# EAGLE library part K4M513233C (library memory-samsung)
SDRAM 4M x 32Bit x 4 Banks Mobile SDRAM
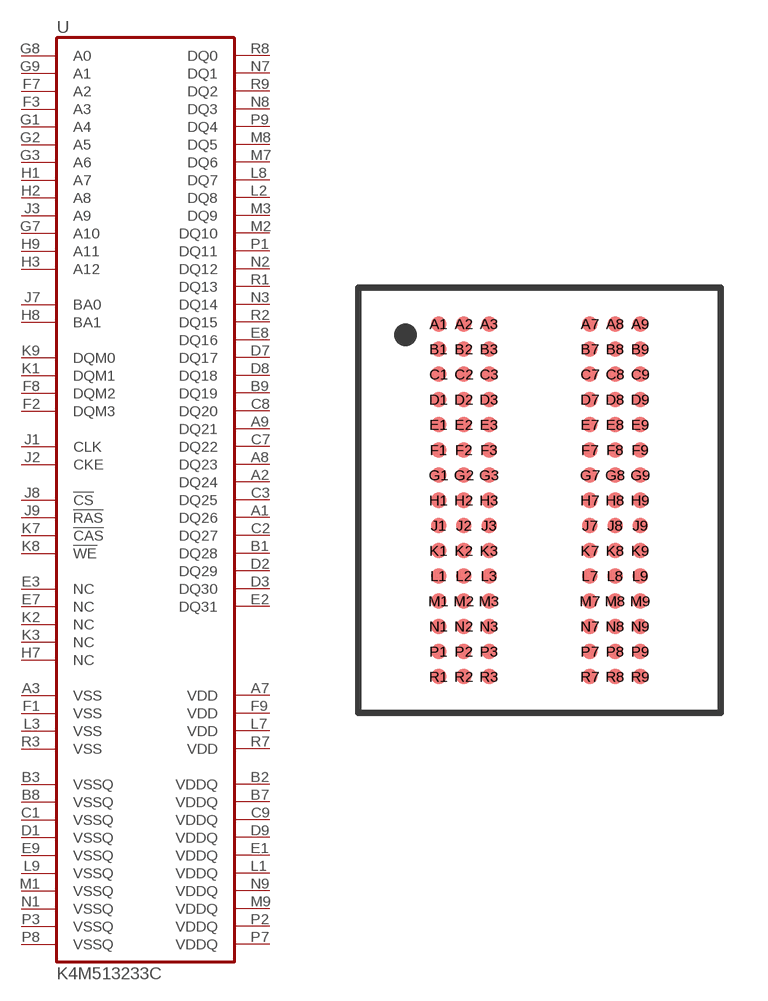
[diagram p3: symbol with the pads of FBGA90-6X15; footprint FBGA90-6X15]

Designator prefix U

## K4M513233C  [FBGA90-6X15]
A1  DQ26
A2  DQ24
A3  VSS  pwr
A7  VDD  pwr
A8  DQ23
A9  DQ21
B1  DQ28
B2  VDDQ  pwr
B3  VSSQ  pwr
B7  VDDQ  pwr
B8  VSSQ  pwr
B9  DQ19
C1  VSSQ  pwr
C2  DQ27
C3  DQ25
C7  DQ22
C8  DQ20
C9  VDDQ  pwr
D1  VSSQ  pwr
D2  DQ29
D3  DQ30
D7  DQ17
D8  DQ18
D9  VDDQ  pwr
E1  VDDQ  pwr
E2  DQ31
E3  NC  nc
E7  NC  nc
E8  DQ16
E9  VSSQ  pwr
F1  VSS  pwr
F2  DQM3  in
F3  A3  in
F7  A2  in
F8  DQM2  in
F9  VDD  pwr
G1  A4  in
G2  A5  in
G3  A6  in
G7  A10  in
G8  A0  in
G9  A1  in
H1  A7  in
H2  A8  in
H3  A12  in
H7  NC  nc
H8  BA1  in
H9  A11  in
J1  CLK  in
J2  CKE  in
J3  A9  in
J7  BA0  in
J8  !CS!  in
J9  !RAS!  in
K1  DQM1  in
K2  NC  nc
K3  NC  nc
K7  !CAS!  in
K8  !WE!  in
K9  DQM0  in
L1  VDDQ  pwr
L2  DQ8
L3  VSS  pwr
L7  VDD  pwr
L8  DQ7
L9  VSSQ  pwr
M1  VSSQ  pwr
M2  DQ10
M3  DQ9
M7  DQ6
M8  DQ5
M9  VDDQ  pwr
N1  VSSQ  pwr
N2  DQ12
N3  DQ14
N7  DQ1
N8  DQ3
N9  VDDQ  pwr
P1  DQ11
P2  VDDQ  pwr
P3  VSSQ  pwr
P7  VDDQ  pwr
P8  VSSQ  pwr
P9  DQ4
R1  DQ13
R2  DQ15
R3  VSS  pwr
R7  VDD  pwr
R8  DQ0
R9  DQ2

## Footprint FBGA90-6X15 (pad centres in mm)
FBGA90 (6X15) 0.80 mm pitch
smd 0.5 x 0.5: A1 -3.2,5.6; A2 -2.4,5.6; A3 -1.6,5.6; A7 1.6,5.6; A8 2.4,5.6; A9 3.2,5.6; B1 -3.2,4.8; B2 -2.4,4.8; B3 -1.6,4.8; B7 1.6,4.8; B8 2.4,4.8; B9 3.2,4.8; C1 -3.2,4; C2 -2.4,4; C3 -1.6,4; C7 1.6,4; C8 2.4,4; C9 3.2,4; D1 -3.2,3.2; D2 -2.4,3.2; D3 -1.6,3.2; D7 1.6,3.2; D8 2.4,3.2; D9 3.2,3.2; E1 -3.2,2.4; E2 -2.4,2.4; E3 -1.6,2.4; E7 1.6,2.4; E8 2.4,2.4; E9 3.2,2.4; F1 -3.2,1.6; F2 -2.4,1.6; F3 -1.6,1.6; F7 1.6,1.6; F8 2.4,1.6; F9 3.2,1.6; G1 -3.2,0.8; G2 -2.4,0.8; G3 -1.6,0.8; G7 1.6,0.8; G8 2.4,0.8; G9 3.2,0.8; H1 -3.2,0; H2 -2.4,0; H3 -1.6,0; H7 1.6,0; H8 2.4,0; H9 3.2,0; J1 -3.2,-0.8; J2 -2.4,-0.8; J3 -1.6,-0.8; J7 1.6,-0.8; J8 2.4,-0.8; J9 3.2,-0.8; K1 -3.2,-1.6; K2 -2.4,-1.6; K3 -1.6,-1.6; K7 1.6,-1.6; K8 2.4,-1.6; K9 3.2,-1.6; L1 -3.2,-2.4; L2 -2.4,-2.4; L3 -1.6,-2.4; L7 1.6,-2.4; L8 2.4,-2.4; L9 3.2,-2.4; M1 -3.2,-3.2; M2 -2.4,-3.2; M3 -1.6,-3.2; M7 1.6,-3.2; M8 2.4,-3.2; M9 3.2,-3.2; N1 -3.2,-4; N2 -2.4,-4; N3 -1.6,-4; N7 1.6,-4; N8 2.4,-4; N9 3.2,-4; P1 -3.2,-4.8; P2 -2.4,-4.8; P3 -1.6,-4.8; P7 1.6,-4.8; P8 2.4,-4.8; P9 3.2,-4.8; R1 -3.2,-5.6; R2 -2.4,-5.6; R3 -1.6,-5.6; R7 1.6,-5.6; R8 2.4,-5.6; R9 3.2,-5.6